# Altium footprint library Cap electrolitic HOR-8x12-P3.5.PcbLib: 1 footprints
Each footprint in its own frame and in the unit in brackets; x right, y up, seen from the top. Pads: shape width x height; smd on the part's side, far side on the other; paste and mask are expansions set on the pad; w line width, h text height; cw(c..) or ccw(c..) is an arc to the next point about the centre after c.
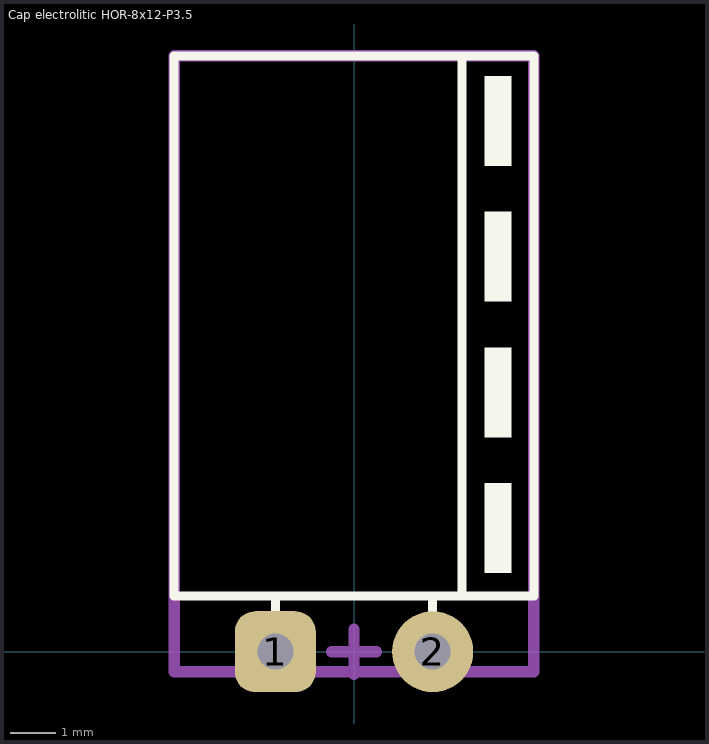
[diagram p0: the footprint, top view; thin cyan lines are the x and y axes]

## Cap electrolitic HOR-8x12-P3.5 [mm] "Cap electrolitic horisontal 8x12-3.5-Design:Mostafa"
height 8
pads (2):
  rrect50% 1.8x1.8 hole 0.8: 1(-1.75,0)
  round 1.8 hole 0.8: 2(1.75,0)
Top Overlay:
  rectangle: 2.9,10.8 3.5,12.8
  rectangle: 2.9,7.783 3.5,9.783
  rectangle: 2.9,4.767 3.5,6.767
  rectangle: 2.9,1.75 3.5,3.75
  lines w0.2: -1.75,0.45 -1.75,1.2 ; 1.75,0.45 1.75,1.2 ; 2.4,1.25 2.4,13.2 ; -4,1.241 4,1.241 4,13.241 -4,13.241 -4,1.241
Mechanical 15:
  lines w0.254: -0.5,0 0.5,0 ; 0,-0.5 0,0.5 ; -4,-0.45 -4,13.25 4,13.25 4,-0.45 -4,-0.45
3D body "cap_el_horizontal_d8_h11.5_pitch3.5_w0.6.stp": height 8.1, standoff -3, extent -4,-0.3 4.01,13.31